# Altium footprint library BeagleBoneCape.PcbLib: 3 footprints
Each footprint in its own frame and in the unit in brackets; x right, y up, seen from the top. Pads: shape width x height; smd on the part's side, far side on the other; paste and mask are expansions set on the pad; w line width, h text height; cw(c..) or ccw(c..) is an arc to the next point about the centre after c.
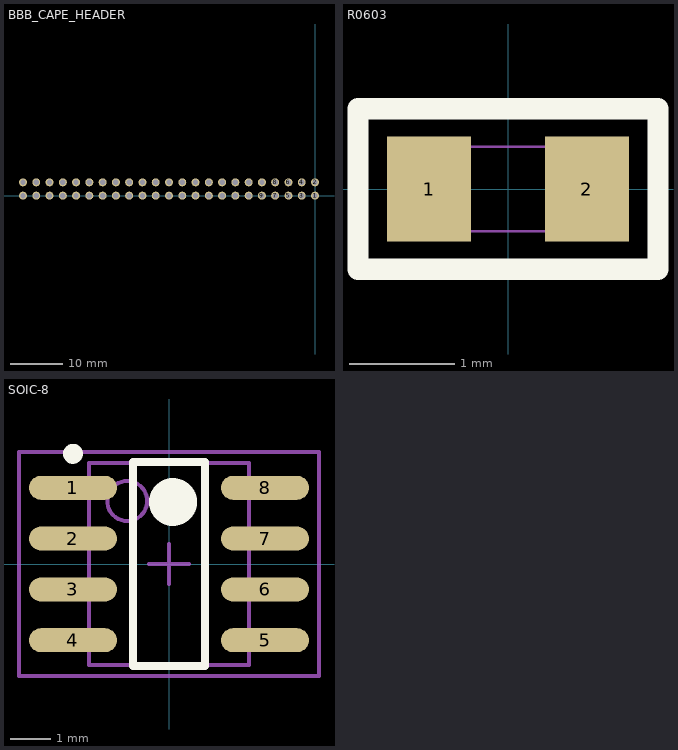
[diagram p0: the footprints below, top view; thin cyan lines are the x and y axes]

## BBB_CAPE_HEADER [mil] "46-pin male header for BeagleBone Black P8,P9"
pads (46):
  round 60 hole 40: 1(0,0) 2(0,100) 3(-100,0) 4(-100,100) 5(-200,0) 6(-200,100) 7(-300,0) 8(-300,100) 9(-400,0) 10(-400,100) 11(-500,0) 12(-500,100) 13(-600,0) 14(-600,100) 15(-700,0) 16(-700,100) 17(-800,0) 18(-800,100) 19(-900,0) 20(-900,100) 21(-1000,0) 22(-1000,100) 23(-1100,0) 24(-1100,100) 25(-1200,0) 26(-1200,100) 27(-1300,0) 28(-1300,100) 29(-1400,0) 30(-1400,100) 31(-1500,0) 32(-1500,100) 33(-1600,0) 34(-1600,100) 35(-1700,0) 36(-1700,100) 37(-1800,0) 38(-1800,100) 39(-1900,0) 40(-1900,100) 41(-2000,0) 42(-2000,100) 43(-2100,0) 44(-2100,100) 45(-2200,0) 46(-2200,100)
3D body "c-87224-2-l-3d.stp": height 408.48, standoff -124.52, extent -2246,-42 -2154,142
3D body "c-87224-2-l-3d.stp": height 408.48, standoff -124.52, extent -2046,-42 -1954,142
3D body "c-87224-2-l-3d.stp": height 408.48, standoff -124.52, extent -2146,-42 -2054,142
3D body "c-87224-2-l-3d.stp": height 408.48, standoff -124.52, extent -1846,-42 -1754,142
3D body "c-87224-2-l-3d.stp": height 408.48, standoff -124.52, extent -1946,-42 -1854,142
3D body "c-87224-2-l-3d.stp": height 408.48, standoff -124.52, extent -1646,-42 -1554,142
3D body "c-87224-2-l-3d.stp": height 408.48, standoff -124.52, extent -1746,-42 -1654,142
3D body "c-87224-2-l-3d.stp": height 408.48, standoff -124.52, extent -1446,-42 -1354,142
3D body "c-87224-2-l-3d.stp": height 408.48, standoff -124.52, extent -1546,-42 -1454,142
3D body "c-87224-2-l-3d.stp": height 408.48, standoff -124.52, extent -1246,-42 -1154,142
3D body "c-87224-2-l-3d.stp": height 408.48, standoff -124.52, extent -1346,-42 -1254,142
3D body "c-87224-2-l-3d.stp": height 408.48, standoff -124.52, extent -1046,-42 -954,142
3D body "c-87224-2-l-3d.stp": height 408.48, standoff -124.52, extent -1146,-42 -1054,142
3D body "c-87224-2-l-3d.stp": height 408.48, standoff -124.52, extent -846,-42 -754,142
3D body "c-87224-2-l-3d.stp": height 408.48, standoff -124.52, extent -946,-42 -854,142
3D body "c-87224-2-l-3d.stp": height 408.48, standoff -124.52, extent -646,-42 -554,142
3D body "c-87224-2-l-3d.stp": height 408.48, standoff -124.52, extent -746,-42 -654,142
3D body "c-87224-2-l-3d.stp": height 408.48, standoff -124.52, extent -446,-42 -354,142
3D body "c-87224-2-l-3d.stp": height 408.48, standoff -124.52, extent -546,-42 -454,142
3D body "c-87224-2-l-3d.stp": height 408.48, standoff -124.52, extent -246,-42 -154,142
3D body "c-87224-2-l-3d.stp": height 408.48, standoff -124.52, extent -346,-42 -254,142
3D body "c-87224-2-l-3d.stp": height 408.48, standoff -124.52, extent -146,-42 -54,142
3D body "c-87224-2-l-3d.stp": height 408.48, standoff -124.52, extent -46,-42 46,142

## R0603 [mm]
pads (2):
  rect 0.8x1 smd: 1(-0.75,0) 2(0.75,0)
Top Overlay:
  lines w0.203: -1.425,-0.762 -1.425,0.762 1.425,0.762 1.425,-0.762 -1.425,-0.762
Mechanical 1:
  lines w0.025: -0.555,-0.4 -0.555,0.4 ; 0.555,-0.4 0.555,0.4 ; -0.8,-0.4 0.8,-0.4 0.8,0.4 -0.8,0.4 -0.8,-0.4
3D body "R0603.STEP": height 0.45, standoff 0, extent -0.8,-0.4 0.8,0.4

## SOIC-8 [mm] "SOIC, 8-Leads, Body 5.1x4.0mm (max), Pitch 1.27mm, IPC Medium Density"
height 1.75
pads (8):
  oval 2.2x0.6 smd: 1(-2.4,1.905) 2(-2.4,0.635) 3(-2.4,-0.635) 4(-2.4,-1.905) 5(2.4,-1.905) 6(2.4,-0.635) 7(2.4,0.635) 8(2.4,1.905)
Top Overlay:
  circle w0.6: c0.1,1.55 r0.3
  circle w0.25: c-2.4,2.755 r0.125
  lines w0.2: -0.9,-2.55 0.9,-2.55 0.9,2.55 -0.9,2.55 -0.9,-2.55
Mechanical 13:
  circle w0.1: c-1.045,1.575 r0.5
  lines w0.1: -1.995,-2.525 1.995,-2.525 1.995,2.525 -1.995,2.525 -1.995,-2.525
Mechanical 15:
  lines w0.1: -0.5,0 0.5,0 ; 0,-0.5 0,0.5 ; -3.75,-2.8 3.75,-2.8 3.75,2.8 -3.75,2.8 -3.75,-2.8
3D body: height 1.75, standoff 0.1, extent -2.032,-2.51 1.958,2.54